# EAGLE library part TM1814 (library Deegou_IC)
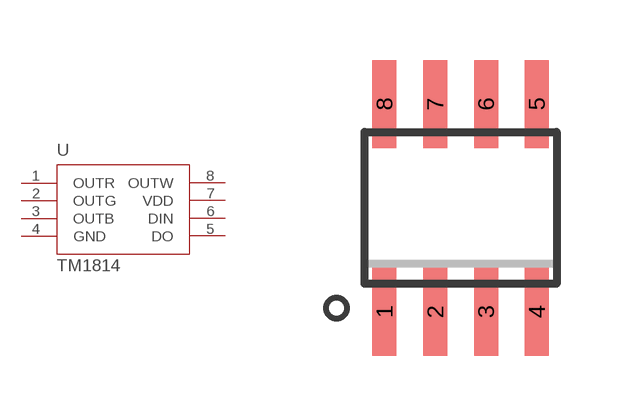
[diagram p16: symbol with the pads of SO08; footprint SO08]

Designator prefix U

## TM1814  [SO08]
1  OUTR
2  OUTG
3  OUTB
4  GND
5  DO
6  DIN
7  VDD
8  OUTW

## Footprint SO08 (pad centres in mm)
Small Outline Package 8 NS Package M08A
smd 0.6 x 2.2: 1 -1.905,-2.6; 2 -0.635,-2.6; 3 0.635,-2.6; 4 1.905,-2.6; 5 1.905,2.6; 6 0.635,2.6; 7 -0.635,2.6; 8 -1.905,2.6